# Altium schematic symbol library TH Magnetics.SchLib: 7 symbols
Pins are listed as number, name and electrical type; pins without a type are passive.

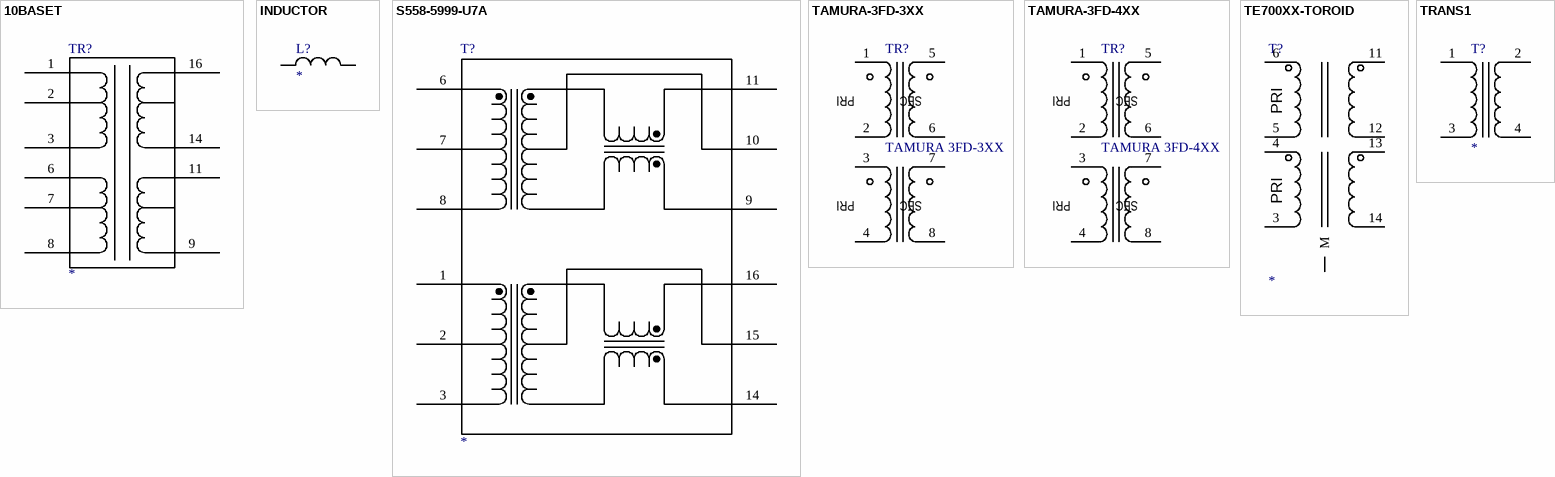
[diagram p0: symbols 10BASET to TRANS1]

## 10BASET
designator TR?
THERNET TRANSFORMER
pins: 1, 2, 3, 6, 7, 8, 9, 11, 14, 16

## INDUCTOR
designator L?
INDUCTOR
pins: 1, 2

## S558-5999-U7A
designator T?
Magnetics, 10/100Base-T, 1CT:1CT Tx and Rx; Supplier 1: Digi-Key; Supplier Part Number 1: 507-1463-2-ND
pins: 1, 2, 3, 6, 7, 8, 9, 10, 11, 14, 15, 16

## TAMURA-3FD-3XX
designator TR?, comment TAMURA 3FD-3XX
footprint TAMURA-3FD-3XX
pins: 1, 2, 3, 4, 5, 6, 7, 8
text: PRI; SEC

## TAMURA-3FD-4XX
designator TR?, comment TAMURA 3FD-4XX
footprint TAMURA-3FD-4XX
pins: 1, 2, 3, 4, 5, 6, 7, 8
text: PRI; SEC

## TE700XX-TOROID
designator T?
AMVECO POTTED TOROIDAL TRANSFORMER
footprint TE70035
pins: 3, 4, 5, 6, 11, 12, 13, 14, M
text: PRI

## TRANS1
designator T?
pins: 1, 2, 3, 4